# Altium schematic symbol library HAB_ICs.SchLib: 20 symbols
Pins are listed as number, name and electrical type; pins without a type are passive.

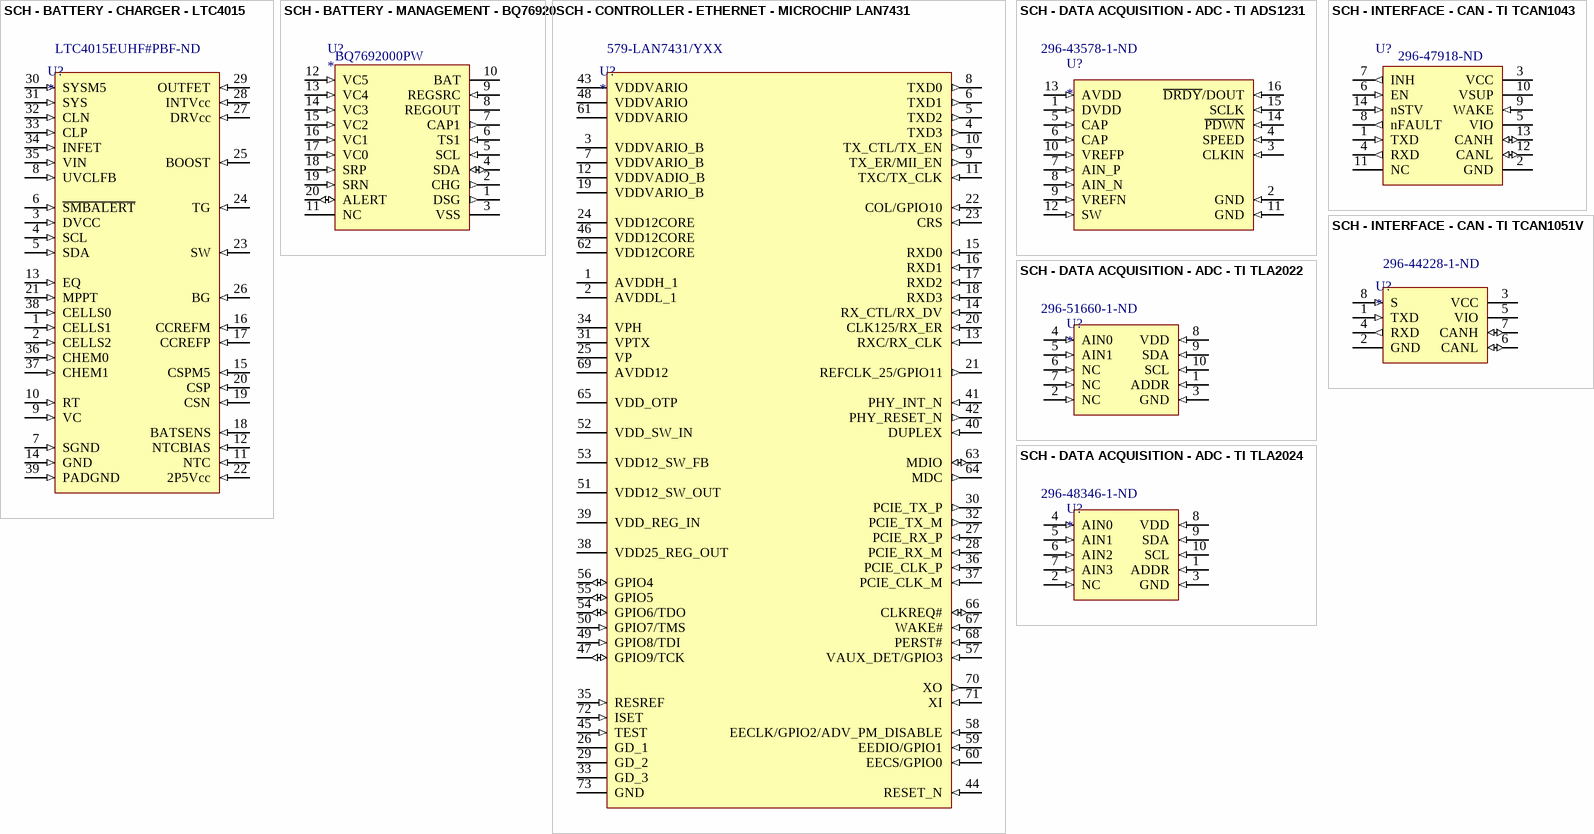
[diagram p0: symbols SCH - BATTERY - CHARGER - LTC4015 to SCH - INTERFACE - CAN - TI TCAN1051V]

## SCH - BATTERY - CHARGER - LTC4015
designator U?  Supplier Part Number 1: LTC4015EUHF#PBF-ND
Supplier 1: Digi-Key
footprint PCB - LEADLESS - QFN - Analog 38-WFQFN
pins: 1 CELLS1 (in), 2 CELLS2 (in), 3 DVCC (in), 4 SCL (in), 5 SDA (in), 6 ~{SMBALERT} (in), 7 SGND (in), 8 UVCLFB (in), 9 VC (in), 10 RT (in), 11 NTC (in), 12 NTCBIAS (in), 13 EQ (in), 14 GND (in), 15 CSPM5 (in), 16 CCREFM (in), 17 CCREFP (in), 18 BATSENS (in), 19 CSN (in), 20 CSP (in), 21 MPPT (in), 22 2P5Vcc (in), 23 SW (in), 24 TG (in), 25 BOOST (in), 26 BG (in), 27 DRVcc (in), 28 INTVcc (in), 29 OUTFET (in), 30 SYSM5 (in), 31 SYS (in), 32 CLN (in), 33 CLP (in), 34 INFET (in), 35 VIN (in), 36 CHEM0 (in), 37 CHEM1 (in), 38 CELLS0 (in), 39 PADGND (in)

## SCH - BATTERY - MANAGEMENT - BQ76920
designator U?  Supplier Part Number 1: BQ7692000PW
Supplier 1: Rochester Electronics
footprint PCB - LEADS - SOP - TI 20-TSSOP
pins: 1 DSG (out), 2 CHG (out), 3 VSS (power), 4 SDA (io), 5 SCL (in), 6 TS1 (in), 7 CAP1 (out), 8 REGOUT (power), 9 REGSRC (in), 10 BAT (power), 11 NC, 12 VC5 (in), 13 VC4 (in), 14 VC3 (in), 15 VC2 (in), 16 VC1 (in), 17 VC0 (in), 18 SRP (in), 19 SRN (in), 20 ALERT (io)

## SCH - CONTROLLER - ETHERNET - MICROCHIP LAN7431
designator U?  Supplier Part Number 1: 579-LAN7431/YXX
Supplier 1: Mouser
footprint PCB - LEADLESS - QFN - MICROCHIP 72-SQFN
pins: 1 AVDDH_1 (power), 2 AVDDL_1 (power), 3 VDDVARIO_B (power), 4 TXD3 (out), 5 TXD2 (out), 6 TXD1 (out), 7 VDDVARIO_B (power), 8 TXD0 (out), 9 TX_ER/MII_EN (out), 10 TX_CTL/TX_EN (out), 11 TXC/TX_CLK (in), 12 VDDVADIO_B (power), 13 RXC/RX_CLK (in), 14 RX_CTL/RX_DV (in), 15 RXD0 (in), 16 RXD1 (in), 17 RXD2 (in), 18 RXD3 (in), 19 VDDVARIO_B (power), 20 CLK125/RX_ER (in), 21 REFCLK_25/GPIO11 (out), 22 COL/GPIO10 (in), 23 CRS (in), 24 VDD12CORE (power), 25 VP (power), 26 GD_1 (power), 27 PCIE_RX_P (in), 28 PCIE_RX_M (in), 29 GD_2 (power), 30 PCIE_TX_P (out), 31 VPTX (power), 32 PCIE_TX_M (out), 33 GD_3 (power), 34 VPH (power), 35 RESREF (in), 36 PCIE_CLK_P (in), 37 PCIE_CLK_M (in), 38 VDD25_REG_OUT (power), 39 VDD_REG_IN (power), 40 DUPLEX (in), 41 PHY_INT_N (in), 42 PHY_RESET_N (out), 43 VDDVARIO (power), 44 RESET_N (in), 45 TEST (in), 46 VDD12CORE (power), 47 GPIO9/TCK (io), 48 VDDVARIO (power), 49 GPIO8/TDI (in), 50 GPIO7/TMS (in), 51 VDD12_SW_OUT (power), 52 VDD_SW_IN (power), 53 VDD12_SW_FB (power), 54 GPIO6/TDO (io), 55 GPIO5 (io), 56 GPIO4 (io), 57 VAUX_DET/GPIO3 (in), 58 EECLK/GPIO2/ADV_PM_DISABLE (in), 59 EEDIO/GPIO1 (in), 60 EECS/GPIO0 (in), 61 VDDVARIO (power), 62 VDD12CORE (power), 63 MDIO (io), 64 MDC (out), 65 VDD_OTP (power), 66 CLKREQ# (io), 67 WAKE# (in), 68 PERST# (in), 69 AVDD12 (power), 70 XO (out), 71 XI (in), 72 ISET (in), 73 GND (power)

## SCH - DATA ACQUISITION - ADC - TI ADS1231
designator U?  Supplier Part Number 1: 296-43578-1-ND
Supplier 1: Digi-Key
footprint PCB - LEADS - SOIC - TI 16-SOIC (SOIC, 16-Leads, Body 9.90x3.90mm, Pitch 1.27mm, IPC Medium Density)
pins: 1 DVDD (in), 2 GND (in), 3 CLKIN (in), 4 SPEED (in), 5 CAP (in), 6 CAP (in), 7 AIN_P (in), 8 AIN_N (in), 9 VREFN (in), 10 VREFP (in), 11 GND (in), 12 SW (in), 13 AVDD (in), 14 ~{PDWN} (in), 15 SCLK (in), 16 ~{DRDY}/DOUT (in)

## SCH - DATA ACQUISITION - ADC - TI TLA2022
designator U?  Supplier Part Number 1: 296-51660-1-ND
Supplier 1: Digi-Key
footprint PCB - LEADLESS - QFN - TI X2QFN-10
pins: 1 ADDR (in), 2 NC (in), 3 GND (in), 4 AIN0 (in), 5 AIN1 (in), 6 NC (in), 7 NC (in), 8 VDD (in), 9 SDA (in), 10 SCL (in)

## SCH - DATA ACQUISITION - ADC - TI TLA2024
designator U?  Supplier Part Number 1: 296-48346-1-ND
Supplier 1: Digi-Key
footprint PCB - LEADLESS - QFN - TI X2QFN-10
pins: 1 ADDR (in), 2 NC (in), 3 GND (in), 4 AIN0 (in), 5 AIN1 (in), 6 AIN2 (in), 7 AIN3 (in), 8 VDD (in), 9 SDA (in), 10 SCL (in)

## SCH - INTERFACE - CAN - TI TCAN1043
designator U?  Supplier Part Number 1: 296-47918-ND
Supplier 1: Digi-Key
footprint PCB - LEADS - SOIC - TI 14-SOIC
pins: 1 TXD (in), 2 GND (power), 3 VCC (power), 4 RXD (out), 5 VIO (power), 6 EN (in), 7 INH (out), 8 nFAULT (out), 9 WAKE (in), 10 VSUP (power), 11 NC, 12 CANL (io), 13 CANH (io), 14 nSTV (in)

## SCH - INTERFACE - CAN - TI TCAN1051V
designator U?  Supplier Part Number 1: 296-44228-1-ND
Supplier 1: Digi-Key
footprint PCB - LEADS - SOIC - TI SOIC-8 (SOIC, 8-Leads, Body 4.91x3.90mm, Pitch 1.27mm, IPC Medium Density)
pins: 1 TXD (in), 2 GND (power), 3 VCC (power), 4 RXD (out), 5 VIO (power), 6 CANL (io), 7 CANH (io), 8 S (in)

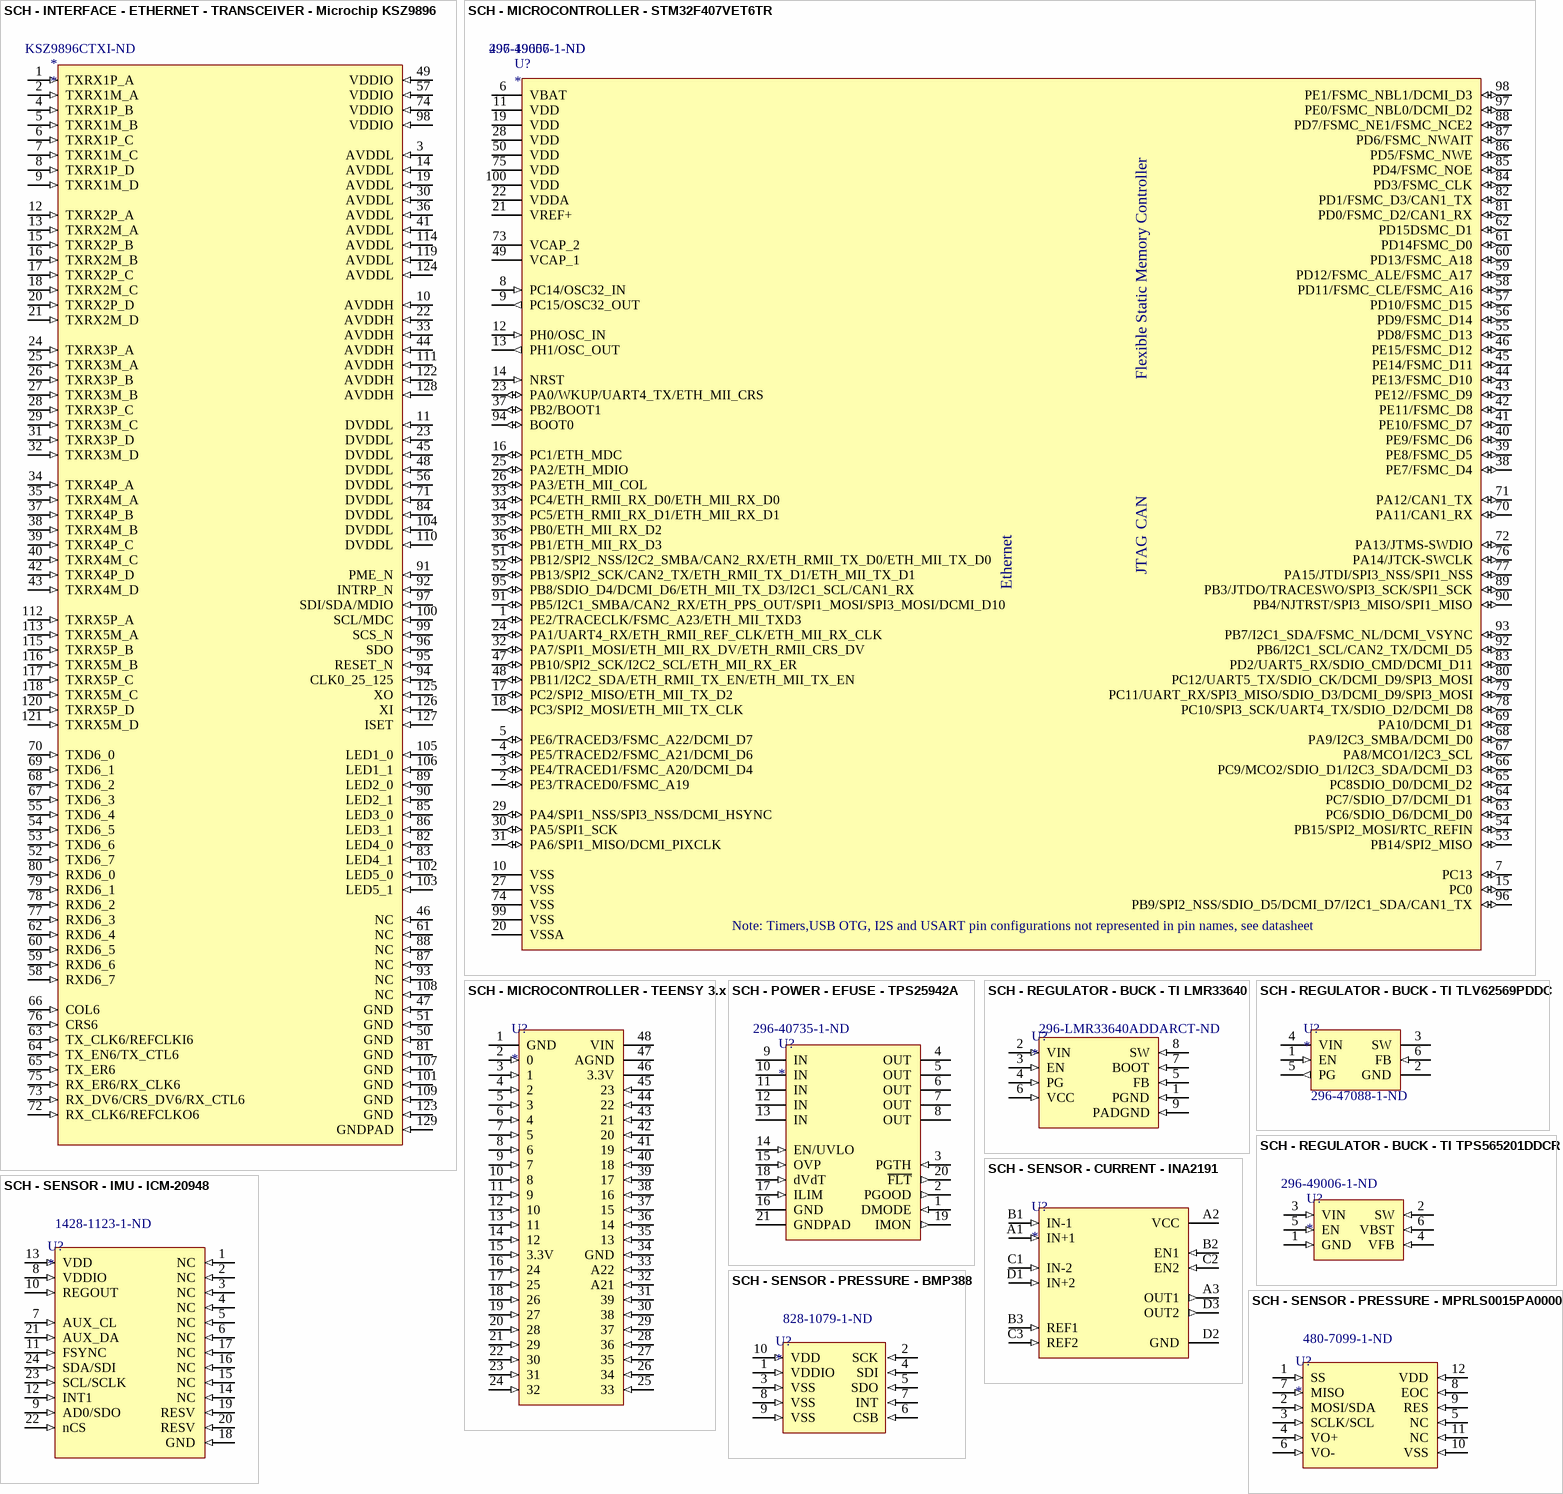
[diagram p1: symbols SCH - INTERFACE - ETHERNET - TRANSCEIVER - Microchip KSZ9896 to SCH - SENSOR - PRESSURE - MPRLS0015PA0000SA]

## SCH - INTERFACE - ETHERNET - TRANSCEIVER - Microchip KSZ9896
designator *  Supplier Part Number 1: KSZ9896CTXI-ND
Supplier 1: Digi-Key
footprint PCB - LEADS - QFP - Microchip 128-TQFP
pins: 1 TXRX1P_A (in), 2 TXRX1M_A (in), 3 AVDDL (in), 4 TXRX1P_B (in), 5 TXRX1M_B (in), 6 TXRX1P_C (in), 7 TXRX1M_C (in), 8 TXRX1P_D (in), 9 TXRX1M_D (in), 10 AVDDH (in), 11 DVDDL (in), 12 TXRX2P_A (in), 13 TXRX2M_A (in), 14 AVDDL (in), 15 TXRX2P_B (in), 16 TXRX2M_B (in), 17 TXRX2P_C (in), 18 TXRX2M_C (in), 19 AVDDL (in), 20 TXRX2P_D (in), 21 TXRX2M_D (in), 22 AVDDH (in), 23 DVDDL (in), 24 TXRX3P_A (in), 25 TXRX3M_A (in), 26 TXRX3P_B (in), 27 TXRX3M_B (in), 28 TXRX3P_C (in), 29 TXRX3M_C (in), 30 AVDDL (in), 31 TXRX3P_D (in), 32 TXRX3M_D (in), 33 AVDDH (in), 34 TXRX4P_A (in), 35 TXRX4M_A (in), 36 AVDDL (in), 37 TXRX4P_B (in), 38 TXRX4M_B (in), 39 TXRX4P_C (in), 40 TXRX4M_C (in), 41 AVDDL (in), 42 TXRX4P_D (in), 43 TXRX4M_D (in), 44 AVDDH (in), 45 DVDDL (in), 46 NC (in), 47 GND (in), 48 DVDDL (in), 49 VDDIO (in), 50 GND (in), 51 GND (in), 52 TXD6_7 (in), 53 TXD6_6 (in), 54 TXD6_5 (in), 55 TXD6_4 (in), 56 DVDDL (in), 57 VDDIO (in), 58 RXD6_7 (in), 59 RXD6_6 (in), 60 RXD6_5 (in), 61 NC (in), 62 RXD6_4 (in), 63 TX_CLK6/REFCLKI6 (in), 64 TX_EN6/TX_CTL6 (in), 65 TX_ER6 (in), 66 COL6 (in), 67 TXD6_3 (in), 68 TXD6_2 (in), 69 TXD6_1 (in), 70 TXD6_0 (in), 71 DVDDL (in), 72 RX_CLK6/REFCLKO6 (in), 73 RX_DV6/CRS_DV6/RX_CTL6 (in), 74 VDDIO (in), 75 RX_ER6/RX_CLK6 (in), 76 CRS6 (in), 77 RXD6_3 (in), 78 RXD6_2 (in), 79 RXD6_1 (in), 80 RXD6_0 (in), 81 GND (in), 82 LED4_0 (in), 83 LED4_1 (in), 84 DVDDL (in), 85 LED3_0 (in), 86 LED3_1 (in), 87 NC (in), 88 NC (in), 89 LED2_0 (in), 90 LED2_1 (in), 91 PME_N (in), 92 INTRP_N (in), 93 NC (in), 94 CLK0_25_125 (in), 95 RESET_N (in), 96 SDO (in), 97 SDI/SDA/MDIO (in), 98 VDDIO (in), 99 SCS_N (in), 100 SCL/MDC (in), 101 GND (in), 102 LED5_0 (in), 103 LED5_1 (in), 104 DVDDL (in), 105 LED1_0 (in), 106 LED1_1 (in), 107 GND (in), 108 NC (in), 109 GND (in), 110 DVDDL (in), 111 AVDDH (in), 112 TXRX5P_A (in), 113 TXRX5M_A (in), 114 AVDDL (in), 115 TXRX5P_B (in), 116 TXRX5M_B (in), 117 TXRX5P_C (in), 118 TXRX5M_C (in), 119 AVDDL (in), 120 TXRX5P_D (in), 121 TXRX5M_D (in), 122 AVDDH (in), 123 GND (in), 124 AVDDL (in), 125 XO (in), 126 XI (in), 127 ISET (in), 128 AVDDH (in), 129 GNDPAD (in)

## SCH - MICROCONTROLLER - STM32F407VET6TR
designator U?  Supplier Part Number 1: 497-19657-1-ND
Supplier 1: Digi-Key
footprint PCB - LEADLESS - QFP - ST LQFP-100 14X14MM (LQFP, 100-Leads, Body 14.00x14.00mm, Pitch 0.50mm, IPC Medium Density)
pins: 1 PE2/TRACECLK/FSMC_A23/ETH_MII_TXD3 (io), 2 PE3/TRACED0/FSMC_A19 (io), 3 PE4/TRACED1/FSMC_A20/DCMI_D4 (io), 4 PE5/TRACED2/FSMC_A21/DCMI_D6 (io), 5 PE6/TRACED3/FSMC_A22/DCMI_D7 (io), 6 VBAT (power), 7 PC13 (io), 8 PC14/OSC32_IN (in), 9 PC15/OSC32_OUT (out), 10 VSS (power), 11 VDD (power), 12 PH0/OSC_IN (in), 13 PH1/OSC_OUT (out), 14 NRST (in), 15 PC0 (io), 16 PC1/ETH_MDC (io), 17 PC2/SPI2_MISO/ETH_MII_TX_D2 (io), 18 PC3/SPI2_MOSI/ETH_MII_TX_CLK (io), 19 VDD (power), 20 VSSA (power), 21 VREF+ (power), 22 VDDA (power), 23 PA0/WKUP/UART4_TX/ETH_MII_CRS (io), 24 PA1/UART4_RX/ETH_RMII_REF_CLK/ETH_MII_RX_CLK (io), 25 PA2/ETH_MDIO (io), 26 PA3/ETH_MII_COL (io), 27 VSS (power), 28 VDD (power), 29 PA4/SPI1_NSS/SPI3_NSS/DCMI_HSYNC (io), 30 PA5/SPI1_SCK (io), 31 PA6/SPI1_MISO/DCMI_PIXCLK (io), 32 PA7/SPI1_MOSI/ETH_MII_RX_DV/ETH_RMII_CRS_DV (io), 33 PC4/ETH_RMII_RX_D0/ETH_MII_RX_D0 (io), 34 PC5/ETH_RMII_RX_D1/ETH_MII_RX_D1 (io), 35 PB0/ETH_MII_RX_D2 (io), 36 PB1/ETH_MII_RX_D3 (io), 37 PB2/BOOT1 (io), 38 PE7/FSMC_D4 (io), 39 PE8/FSMC_D5 (io), 40 PE9/FSMC_D6 (io), 41 PE10/FSMC_D7 (io), 42 PE11/FSMC_D8 (io), 43 PE12//FSMC_D9 (io), 44 PE13/FSMC_D10 (io), 45 PE14/FSMC_D11 (io), 46 PE15/FSMC_D12 (io), 47 PB10/SPI2_SCK/I2C2_SCL/ETH_MII_RX_ER (io), 48 PB11/I2C2_SDA/ETH_RMII_TX_EN/ETH_MII_TX_EN (io), 49 VCAP_1 (power), 50 VDD (power), 51 PB12/SPI2_NSS/I2C2_SMBA/CAN2_RX/ETH_RMII_TX_D0/ETH_MII_TX_D0 (io), 52 PB13/SPI2_SCK/CAN2_TX/ETH_RMII_TX_D1/ETH_MII_TX_D1 (io), 53 PB14/SPI2_MISO (io), 54 PB15/SPI2_MOSI/RTC_REFIN (io), 55 PD8/FSMC_D13 (io), 56 PD9/FSMC_D14 (io), 57 PD10/FSMC_D15 (io), 58 PD11/FSMC_CLE/FSMC_A16 (io), 59 PD12/FSMC_ALE/FSMC_A17 (io), 60 PD13/FSMC_A18 (io), 61 PD14FSMC_D0 (io), 62 PD15DSMC_D1 (io), 63 PC6/SDIO_D6/DCMI_D0 (io), 64 PC7/SDIO_D7/DCMI_D1 (io), 65 PC8SDIO_D0/DCMI_D2 (io), 66 PC9/MCO2/SDIO_D1/I2C3_SDA/DCMI_D3 (io), 67 PA8/MCO1/I2C3_SCL (io), 68 PA9/I2C3_SMBA/DCMI_D0 (io), 69 PA10/DCMI_D1 (io), 70 PA11/CAN1_RX (io), 71 PA12/CAN1_TX (io), 72 PA13/JTMS-SWDIO (io), 73 VCAP_2 (power), 74 VSS (power), 75 VDD (power), 76 PA14/JTCK-SWCLK (io), 77 PA15/JTDI/SPI3_NSS/SPI1_NSS (io), 78 PC10/SPI3_SCK/UART4_TX/SDIO_D2/DCMI_D8 (io), 79 PC11/UART_RX/SPI3_MISO/SDIO_D3/DCMI_D9/SPI3_MOSI (io), 80 PC12/UART5_TX/SDIO_CK/DCMI_D9/SPI3_MOSI (io), 81 PD0/FSMC_D2/CAN1_RX (io), 82 PD1/FSMC_D3/CAN1_TX (io), 83 PD2/UART5_RX/SDIO_CMD/DCMI_D11 (io), 84 PD3/FSMC_CLK (io), 85 PD4/FSMC_NOE (io), 86 PD5/FSMC_NWE (io), 87 PD6/FSMC_NWAIT (io), 88 PD7/FSMC_NE1/FSMC_NCE2 (io), 89 PB3/JTDO/TRACESWO/SPI3_SCK/SPI1_SCK (io), 90 PB4/NJTRST/SPI3_MISO/SPI1_MISO (io), 91 PB5/I2C1_SMBA/CAN2_RX/ETH_PPS_OUT/SPI1_MOSI/SPI3_MOSI/DCMI_D10 (io), 92 PB6/I2C1_SCL/CAN2_TX/DCMI_D5 (io), 93 PB7/I2C1_SDA/FSMC_NL/DCMI_VSYNC (io), 94 BOOT0 (io), 95 PB8/SDIO_D4/DCMI_D6/ETH_MII_TX_D3/I2C1_SCL/CAN1_RX (io), 96 PB9/SPI2_NSS/SDIO_D5/DCMI_D7/I2C1_SDA/CAN1_TX (io), 97 PE0/FSMC_NBL0/DCMI_D2 (io), 98 PE1/FSMC_NBL1/DCMI_D3 (io), 99 VSS (power), 100 VDD (power)
text: Flexible Static Memory Controller; CAN; JTAG; Ethernet; Note: Timers,USB OTG, I2S and USART pin configurations not represented in pin names, see datasheet

## SCH - MICROCONTROLLER - TEENSY 3.x
designator U?
footprint PCB - THRU - TEENSY 3.x
pins: 1 GND (power), 2 0 (in), 3 1 (in), 4 2 (in), 5 3 (in), 6 4 (in), 7 5 (in), 8 6 (in), 9 7 (in), 10 8 (in), 11 9 (in), 12 10 (in), 13 11 (in), 14 12 (in), 15 3.3V (in), 16 24 (in), 17 25 (in), 18 26 (in), 19 27 (in), 20 28 (in), 21 29 (in), 22 30 (in), 23 31 (in), 24 32 (in), 25 33 (in), 26 34 (in), 27 35 (in), 28 36 (in), 29 37 (in), 30 38 (in), 31 39 (in), 32 A21 (in), 33 A22 (in), 34 GND (in), 35 13 (in), 36 14 (in), 37 15 (in), 38 16 (in), 39 17 (in), 40 18 (in), 41 19 (in), 42 20 (in), 43 21 (in), 44 22 (in), 45 23 (in), 46 3.3V (power), 47 AGND (power), 48 VIN (power)

## SCH - POWER - EFUSE - TPS25942A
designator U?  Supplier Part Number 1: 296-40735-1-ND
Supplier 1: Digi-Key
footprint PCB - LEADLESS - QFN - TI 20-WQFN (PQFN, 20-Leads, Body 3.00x4.00mm, Pitch 0.50mm, Thermal Pad 1.60x2.60mm, IPC Medium Density)
pins: 1 DMODE (in), 2 PGOOD (out), 3 PGTH (in), 4 OUT (power), 5 OUT (power), 6 OUT (power), 7 OUT (power), 8 OUT (power), 9 IN (power), 10 IN (power), 11 IN (power), 12 IN (power), 13 IN (power), 14 EN/UVLO (in), 15 OVP (in), 16 GND (power), 17 ILIM (in), 18 dVdT (in), 19 IMON (out), 20 ~{FLT} (out), 21 GNDPAD (power)

## SCH - REGULATOR - BUCK - TI LMR33640
designator U?  Supplier Part Number 1: 296-LMR33640ADDARCT-ND
Supplier 1: Digi-Key
footprint PCB - LEADS - SOIC - TI 8-PowerSOIC
pins: 1 PGND (in), 2 VIN (in), 3 EN (in), 4 PG (in), 5 FB (in), 6 VCC (in), 7 BOOT (in), 8 SW (in), 9 PADGND (in)

## SCH - REGULATOR - BUCK - TI TLV62569PDDC
designator U?  Supplier Part Number 1: 296-47088-1-ND
Supplier 1: Digi-Key
footprint PCB - LEADS - SOT- TI TSOT-23-6
pins: 1 EN (in), 2 GND (power), 3 SW (power), 4 VIN (power), 5 PG (out), 6 FB (in)

## SCH - REGULATOR - BUCK - TI TPS565201DDCR
designator U?  Supplier Part Number 1: 296-49006-1-ND
Supplier 1: Digi-Key
footprint PCB - LEADS - SOT- TI TSOT-23-6
pins: 1 GND (in), 2 SW (in), 3 VIN (in), 4 VFB (in), 5 EN (in), 6 VBST (in)

## SCH - SENSOR - CURRENT - INA2191
designator U?
footprint PCB - LEADLESS - BGA - TI DSBGA-12
pins: A1 IN+1 (in), A2 VCC (power), A3 OUT1 (out), B1 IN-1 (in), B2 EN1 (in), B3 REF1 (in), C1 IN-2 (in), C2 EN2 (in), C3 REF2 (in), D1 IN+2 (in), D2 GND (power), D3 OUT2 (out)

## SCH - SENSOR - IMU - ICM-20948
designator U?  Supplier Part Number 1: 1428-1123-1-ND
Supplier 1: Digi-Key
footprint PCB - LEADLESS - QFN - TDK 24-TFQFN
pins: 1 NC (in), 2 NC (in), 3 NC (in), 4 NC (in), 5 NC (in), 6 NC (in), 7 AUX_CL (in), 8 VDDIO (in), 9 AD0/SDO (in), 10 REGOUT (in), 11 FSYNC (in), 12 INT1 (in), 13 VDD (in), 14 NC (in), 15 NC (in), 16 NC (in), 17 NC (in), 18 GND (in), 19 RESV (in), 20 RESV (in), 21 AUX_DA (in), 22 nCS (in), 23 SCL/SCLK (in), 24 SDA/SDI (in)

## SCH - SENSOR - PRESSURE - BMP388
designator U?  Supplier Part Number 1: 828-1079-1-ND
Supplier 1: Digi-Key
footprint PCB - LEADLESS - BOSCH LGA10
pins: 1 VDDIO (in), 2 SCK (in), 3 VSS (in), 4 SDI (in), 5 SDO (in), 6 CSB (in), 7 INT (in), 8 VSS (in), 9 VSS (in), 10 VDD (in)

## SCH - SENSOR - PRESSURE - MPRLS0015PA0000SA
designator U?  Supplier Part Number 1: 480-7099-1-ND
Supplier 1: Digi-Key
footprint PCB - LEADLESS - SMD - Honeywell SMD12
pins: 1 SS (in), 2 MOSI/SDA (in), 3 SCLK/SCL (in), 4 VO+ (in), 5 NC (in), 6 VO- (in), 7 MISO (in), 8 EOC (in), 9 RES (in), 10 VSS (in), 11 NC (in), 12 VDD (in)

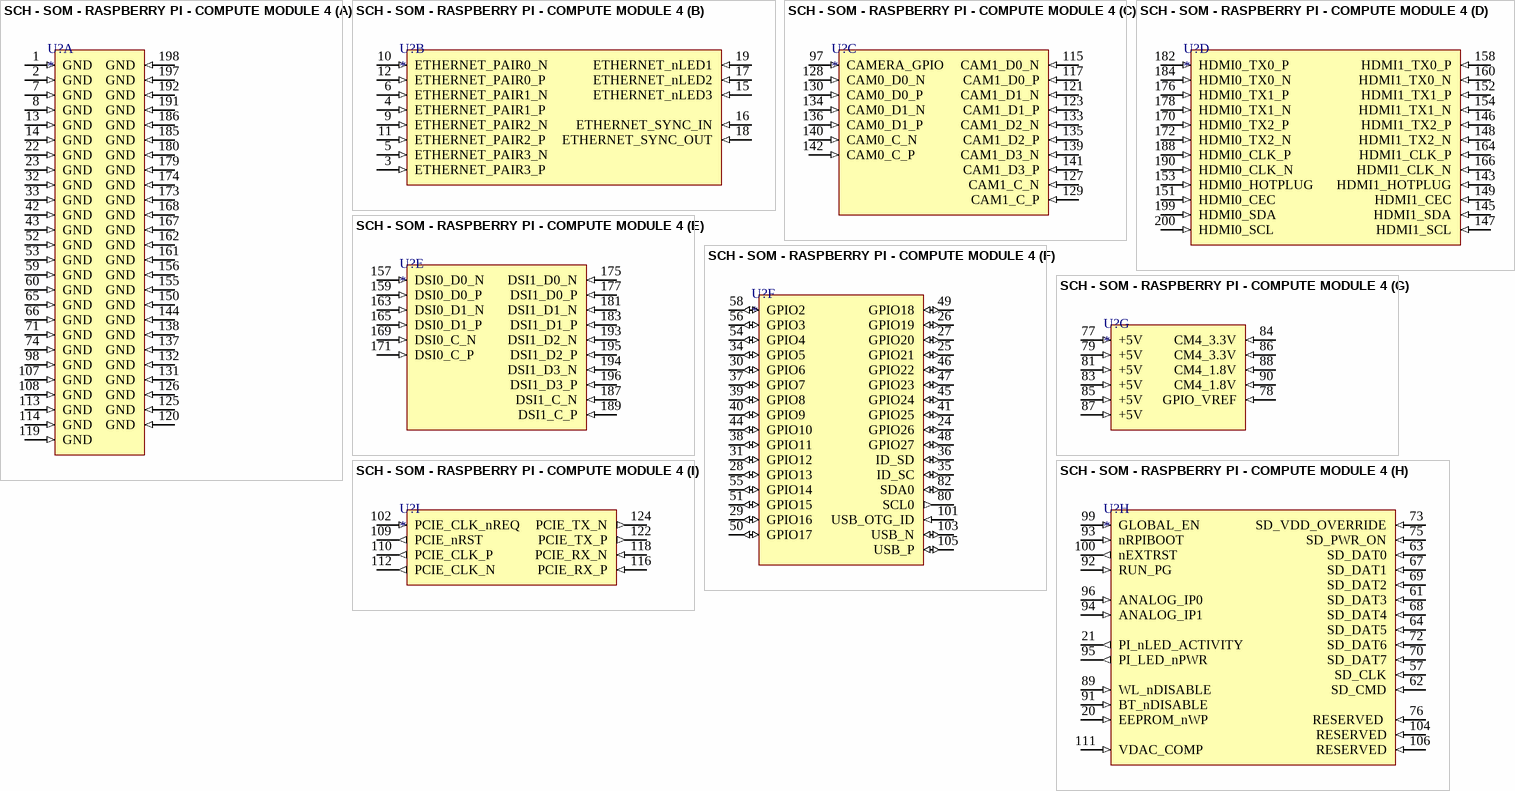
[diagram p2: symbol SCH - SOM - RASPBERRY PI - COMPUTE MODULE 4]

## SCH - SOM - RASPBERRY PI - COMPUTE MODULE 4
designator U?
footprint PCB - SOM - Pi4 Compute Module
part A pins: 1 GND (in), 2 GND (in), 7 GND (in), 8 GND (in), 13 GND (in), 14 GND (in), 22 GND (in), 23 GND (in), 32 GND (in), 33 GND (in), 42 GND (in), 43 GND (in), 52 GND (in), 53 GND (in), 59 GND (in), 60 GND (in), 65 GND (in), 66 GND (in), 71 GND (in), 74 GND (in), 98 GND (in), 107 GND (in), 108 GND (in), 113 GND (in), 114 GND (in), 119 GND (in), 120 GND (in), 125 GND (in), 126 GND (in), 131 GND (in), 132 GND (in), 137 GND (in), 138 GND (in), 144 GND (in), 150 GND (in), 155 GND (in), 156 GND (in), 161 GND (in), 162 GND (in), 167 GND (in), 168 GND (in), 173 GND (in), 174 GND (in), 179 GND (in), 180 GND (in), 185 GND (in), 186 GND (in), 191 GND (in), 192 GND (in), 197 GND (in), 198 GND (in)
part B pins: 3 ETHERNET_PAIR3_P (in), 4 ETHERNET_PAIR1_P (in), 5 ETHERNET_PAIR3_N (in), 6 ETHERNET_PAIR1_N (in), 9 ETHERNET_PAIR2_N (in), 10 ETHERNET_PAIR0_N (in), 11 ETHERNET_PAIR2_P (in), 12 ETHERNET_PAIR0_P (in), 15 ETHERNET_nLED3 (in), 16 ETHERNET_SYNC_IN (in), 17 ETHERNET_nLED2 (in), 18 ETHERNET_SYNC_OUT (in), 19 ETHERNET_nLED1 (in)
part C pins: 97 CAMERA_GPIO (in), 115 CAM1_D0_N (in), 117 CAM1_D0_P (in), 121 CAM1_D1_N (in), 123 CAM1_D1_P (in), 127 CAM1_C_N (in), 128 CAM0_D0_N (in), 129 CAM1_C_P (in), 130 CAM0_D0_P (in), 133 CAM1_D2_N (in), 134 CAM0_D1_N (in), 135 CAM1_D2_P (in), 136 CAM0_D1_P (in), 139 CAM1_D3_N (in), 140 CAM0_C_N (in), 141 CAM1_D3_P (in), 142 CAM0_C_P (in)
part D pins: 143 HDMI1_HOTPLUG (in), 145 HDMI1_SDA (in), 146 HDMI1_TX2_P (in), 147 HDMI1_SCL (in), 148 HDMI1_TX2_N (in), 149 HDMI1_CEC (in), 151 HDMI0_CEC (in), 152 HDMI1_TX1_P (in), 153 HDMI0_HOTPLUG (in), 154 HDMI1_TX1_N (in), 158 HDMI1_TX0_P (in), 160 HDMI1_TX0_N (in), 164 HDMI1_CLK_P (in), 166 HDMI1_CLK_N (in), 170 HDMI0_TX2_P (in), 172 HDMI0_TX2_N (in), 176 HDMI0_TX1_P (in), 178 HDMI0_TX1_N (in), 182 HDMI0_TX0_P (in), 184 HDMI0_TX0_N (in), 188 HDMI0_CLK_P (in), 190 HDMI0_CLK_N (in), 199 HDMI0_SDA (in), 200 HDMI0_SCL (in)
part E pins: 157 DSI0_D0_N (in), 159 DSI0_D0_P (in), 163 DSI0_D1_N (in), 165 DSI0_D1_P (in), 169 DSI0_C_N (in), 171 DSI0_C_P (in), 175 DSI1_D0_N (in), 177 DSI1_D0_P (in), 181 DSI1_D1_N (in), 183 DSI1_D1_P (in), 187 DSI1_C_N (in), 189 DSI1_C_P (in), 193 DSI1_D2_N (in), 194 DSI1_D3_N (in), 195 DSI1_D2_P (in), 196 DSI1_D3_P (in)
part F pins: 24 GPIO26 (io), 25 GPIO21 (io), 26 GPIO19 (io), 27 GPIO20 (io), 28 GPIO13 (io), 29 GPIO16 (io), 30 GPIO6 (io), 31 GPIO12 (io), 34 GPIO5 (io), 35 ID_SC (io), 36 ID_SD (io), 37 GPIO7 (io), 38 GPIO11 (io), 39 GPIO8 (io), 40 GPIO9 (io), 41 GPIO25 (io), 44 GPIO10 (io), 45 GPIO24 (io), 46 GPIO22 (io), 47 GPIO23 (io), 48 GPIO27 (io), 49 GPIO18 (io), 50 GPIO17 (io), 51 GPIO15 (io), 54 GPIO4 (io), 55 GPIO14 (io), 56 GPIO3 (io), 58 GPIO2 (io), 80 SCL0 (out), 82 SDA0 (io), 101 USB_OTG_ID (in), 103 USB_N (io), 105 USB_P (io)
part G pins: 77 +5V (in), 78 GPIO_VREF (in), 79 +5V (in), 81 +5V (in), 83 +5V (in), 84 CM4_3.3V (in), 85 +5V (in), 86 CM4_3.3V (in), 87 +5V (in), 88 CM4_1.8V (in), 90 CM4_1.8V (in)
part H pins: 20 EEPROM_nWP (in), 21 PI_nLED_ACTIVITY (out), 57 SD_CLK (in), 61 SD_DAT3 (in), 62 SD_CMD (in), 63 SD_DAT0 (in), 64 SD_DAT5 (in), 67 SD_DAT1 (in), 68 SD_DAT4 (in), 69 SD_DAT2 (in), 70 SD_DAT7 (in), 72 SD_DAT6 (in), 73 SD_VDD_OVERRIDE (in), 75 SD_PWR_ON (in), 76 RESERVED  (in), 89 WL_nDISABLE (in), 91 BT_nDISABLE (in), 92 RUN_PG (in), 93 nRPIBOOT (in), 94 ANALOG_IP1 (in), 95 PI_LED_nPWR (out), 96 ANALOG_IP0 (in), 99 GLOBAL_EN (in), 100 nEXTRST (out), 104 RESERVED (in), 106 RESERVED (in), 111 VDAC_COMP (in)
part I pins: 102 PCIE_CLK_nREQ (in), 109 PCIE_nRST (out), 110 PCIE_CLK_P (out), 112 PCIE_CLK_N (out), 116 PCIE_RX_P (in), 118 PCIE_RX_N (in), 122 PCIE_TX_P (out), 124 PCIE_TX_N (out)